# EAGLE library part SWD-HEADER (library Headers)
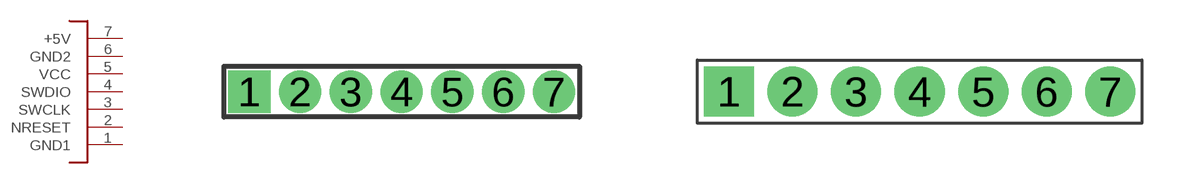
[diagram p7: symbol with the pads of HEADER-7X1-1.27; footprints HEADER-7X1-1.27, HEADER-7X1-2.54]

Designator prefix J

## SWD-HEADER-1.27  [HEADER-7X1-1.27]
1  GND1
2  NRESET
3  SWCLK
4  SWDIO
5  VCC
6  GND2
7  +5V

## SWD-HEADER-2.54  [HEADER-7X1-2.54]
Pads as for HEADER-7X1-1.27

## Footprint HEADER-7X1-1.27 (pad centres in mm)
5 pin 0.1" header
drill 0.55 square: 1 -3.81,0
drill 0.55: 2 -2.54,0; 3 -1.27,0; 4 0,0; 5 1.27,0; 6 2.54,0; 7 3.81,0

## Footprint HEADER-7X1-2.54 (pad centres in mm)
5 pin 0.1" header
drill 1.05 pad 2 square: 1 -7.62,0
drill 1.05 pad 2: 2 -5.08,0; 3 -2.54,0; 4 0,0; 5 2.54,0; 6 5.08,0; 7 7.62,0